# Altium schematic symbol library pot_ST-32.SchLib: 1 symbol
Pins are listed as number, name and electrical type; pins without a type are passive.

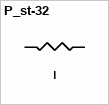
[diagram p0: symbol P_st-32]

## P_st-32
designator P_st-32  (value not drawn)
footprint P_St-32 (3-Leads, Body 3.2x4.6mm)
pins: Vp2, Vp+, Vp-